# EAGLE library part INA3221 (library FaBo-Supply)
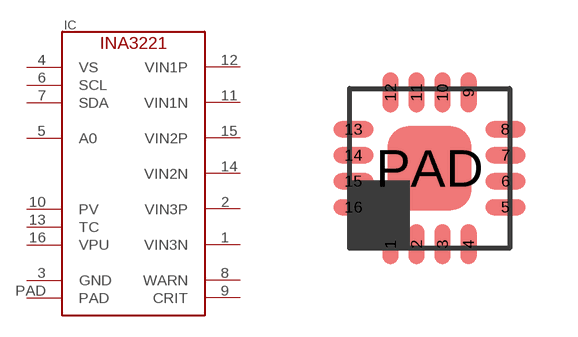
[diagram p11: symbol with the pads of S-PVQFN-N16; footprint S-PVQFN-N16]

Designator prefix IC

## INA3221  [S-PVQFN-N16]
1  VIN3N
2  VIN3P
3  GND
4  VS
5  A0
6  SCL
7  SDA
8  WARN
9  CRIT
10  PV
11  VIN1N
12  VIN1P
13  TC
14  VIN2N
15  VIN2P
16  VPU
PAD  PAD

## Footprint S-PVQFN-N16 (pad centres in mm)
smd 0.4 x 1: 1 -0.975,-1.9; 2 -0.325,-1.9; 3 0.325,-1.9; 4 0.975,-1.9; 9 0.975,1.9; 10 0.325,1.9; 11 -0.325,1.9; 12 -0.975,1.9
smd 1 x 0.4: 5 1.9,-0.975; 6 1.9,-0.325; 7 1.9,0.325; 8 1.9,0.975; 13 -1.9,0.975; 14 -1.9,0.325; 15 -1.9,-0.325; 16 -1.9,-0.975
smd 2.1 x 2.1: PAD 0,0